# Altium footprint library Antenna.PcbLib: 4 footprints
Each footprint in its own frame and in the unit in brackets; x right, y up, seen from the top. Pads: shape width x height; smd on the part's side, far side on the other; paste and mask are expansions set on the pad; w line width, h text height; cw(c..) or ccw(c..) is an arc to the next point about the centre after c.
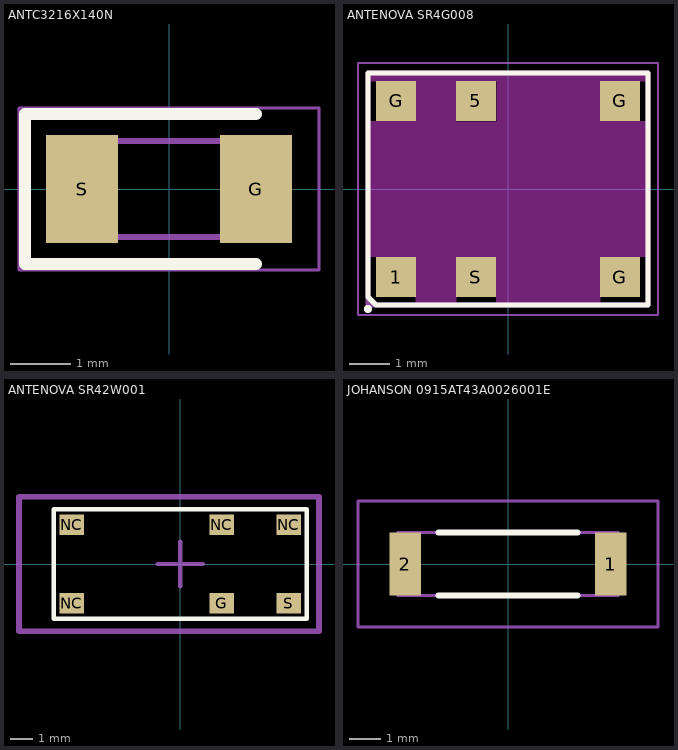
[diagram p0: the footprints below, top view; thin cyan lines are the x and y axes]

## ANTC3216X140N [mm]
pads (2):
  rect 1.2x1.8 smd: G(1.45,0) S(-1.45,0)
Top Overlay:
  lines w0.2: 1.45,-1.25 -2.4,-1.25 -2.4,1.25 1.45,1.25
Top Component Outline:
  lines w0.1: -1.6,0.2 -1,0.8 ; -1.6,-0.8 1.6,-0.8 1.6,0.8 -1.6,0.8 -1.6,-0.8
Top Courtyard:
  lines w0.05: -2.5,-1.35 2.5,-1.35 2.5,1.35 -2.5,1.35 -2.5,-1.35
3D body "2450AT18B100E.stp": height 1.4, standoff 0, extent -1.6,-0.8 1.6,0.8

## ANTENOVA SR4G008 [mm]
pads (6):
  rect 1x1 smd: 1(-2.8,-2.2) 5(-0.8,2.2) G(-2.8,2.2) G(2.8,-2.2) G(2.8,2.2) S(-0.8,-2.2)
Top Overlay:
  circle w0.1: c-3.5,-3 r0.05
  lines w0.127: -3.5,-2.7 -3.5,2.9 3.5,2.9 3.5,-2.9 -3.3,-2.9 -3.5,-2.7
Keep-Out Layer:
  region: 3.5,2.7 2.3,2.7 2.3,1.7 3.5,1.7 3.5,-1.7 2.3,-1.7 2.3,-2.9 -0.3,-2.9 -0.3,-1.7 -1.3,-1.7 -1.3,-2.9 -2.3,-2.9 -2.3,-1.7 -3.5,-1.7 -3.5,1.7 -2.3,1.7 -2.3,2.7 -3.5,2.7 -3.5,2.9 3.5,2.9 hole: -0.3,2.7 -1.3,2.7 -1.3,1.7 -0.3,1.7
  region: 3.5,2.7 2.3,2.7 2.3,1.7 3.5,1.7 3.5,-1.7 2.3,-1.7 2.3,-2.9 -0.3,-2.9 -0.3,-1.7 -1.3,-1.7 -1.3,-2.9 -2.3,-2.9 -2.3,-1.7 -3.5,-1.7 -3.5,1.7 -2.3,1.7 -2.3,2.7 -3.5,2.7 -3.5,2.9 3.5,2.9 hole: -0.3,2.7 -1.3,2.7 -1.3,1.7 -0.3,1.7
  region: 3.5,2.7 2.3,2.7 2.3,1.7 3.5,1.7 3.5,-1.7 2.3,-1.7 2.3,-2.9 -0.3,-2.9 -0.3,-1.7 -1.3,-1.7 -1.3,-2.9 -2.3,-2.9 -2.3,-1.7 -3.5,-1.7 -3.5,1.7 -2.3,1.7 -2.3,2.7 -3.5,2.7 -3.5,2.9 3.5,2.9 hole: -0.3,2.7 -1.3,2.7 -1.3,1.7 -0.3,1.7
Top Component Outline:
  lines w0.127: -3.5,-2.9 3.5,-2.9 3.5,2.9 -3.5,2.9 -3.5,-2.9
Top Courtyard:
  lines w0.05: -3.75,-3.15 -3.75,3.15 3.75,3.15 3.75,-3.15 -3.75,-3.15
3D body "Antenova SR4G008.STEP": height 0.6, standoff 0, extent -3.5,-2.9 3.5,2.9

## ANTENOVA SR42W001 [mm]
height 0.9
pads (6):
  rect 1.1x0.9 smd: G(1.85,-1.75) NC(-4.85,-1.75) NC(-4.85,1.75) NC(1.85,1.75) NC(4.85,1.75) S(4.85,-1.75)
Top Overlay:
  lines w0.2: -5.65,-2.45 -5.65,-1.75 -5.65,2.45 5.65,2.45 5.65,-2.45 -5.65,-2.45
Top Component Center:
  lines w0.2: -1,0 1,0 ; 0,-1 0,1
Top Courtyard:
  lines w0.254: -7.2,-3 6.2,-3 6.2,3 -7.2,3 -7.2,-3
3D body "Antenova SR42W001_Mutica.STEP": height 0.88, standoff 0, extent -5.65,-2.5 5.65,2.5

## JOHANSON 0915AT43A0026001E [mm]
pads (2):
  rect 1x2 smd: 1(3.25,0) 2(-3.25,0)
Top Overlay:
  lines w0.2: -2.2,-1 2.2,-1 ; -2.2,1 2.2,1
Top Component Outline:
  lines w0.1: -3.5,-1 3.5,-1 3.5,1 -3.5,1 -3.5,-1
Top Courtyard:
  lines w0.1: -4.75,-2 4.75,-2 4.75,2 -4.75,2 -4.75,-2
3D body "JOHANSON 0915AT43A0026001E.step": height 0.9, standoff 0, extent -3.5,-1 3.5,1